# Altium footprint library RESC2550X75N.PcbLib: 1 footprints
Each footprint in its own frame and in the unit in brackets; x right, y up, seen from the top. Pads: shape width x height; smd on the part's side, far side on the other; paste and mask are expansions set on the pad; w line width, h text height; cw(c..) or ccw(c..) is an arc to the next point about the centre after c.
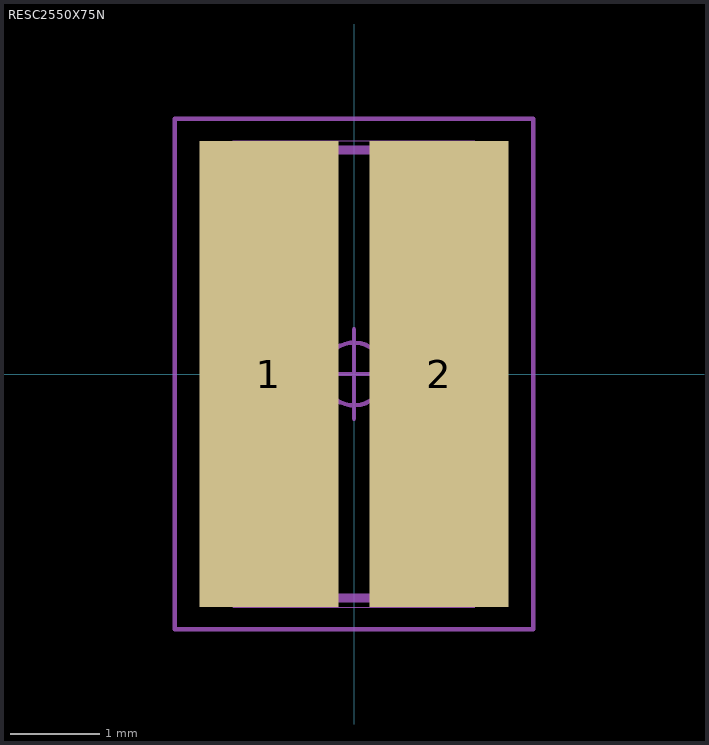
[diagram p0: the footprint, top view; thin cyan lines are the x and y axes]

## RESC2550X75N [mm] "Chip Resistor, EIA 1020, Metric 2550, Body 2.5x5.0mm, IPC Medium Density"
height 0.75
pads (2):
  rect 1.55x5.2 smd: 1(-0.95,0) 2(0.95,0)
Mechanical 8:
  lines w0.001: -1.35,-2.6 -1.35,2.6 1.35,2.6 1.35,-2.6 -1.35,-2.6
Mechanical 14:
  lines w0.1: -1.25,-2.5 -1.25,2.5 1.25,2.5 1.25,-2.5 -1.25,-2.5
Mechanical 15:
  circle w0.05: c0,0 r0.35
  lines w0.05: -0.5,0 0.5,0 ; 0,-0.5 0,0.5 ; -2,-2.85 -2,2.85 2,2.85 2,-2.85 -2,-2.85
3D body "RESC2550X75N.stp": height 0.75, standoff 0, extent -1.25,-2.5 1.25,2.5